# EAGLE library part 256-505/333-009/999-950 (library con-wago_256)
Serie 256, Stand: 01.01.2012. Die jeweils aktuellen Daten zu diesem Artikel finden Sie in unserem Produktkatalog, den Sie unter www.wago.com einsehen können. As of: 01/01/2012. Please find the newest data for this article in our product catalogue, which can be viewed under www.wago.com.
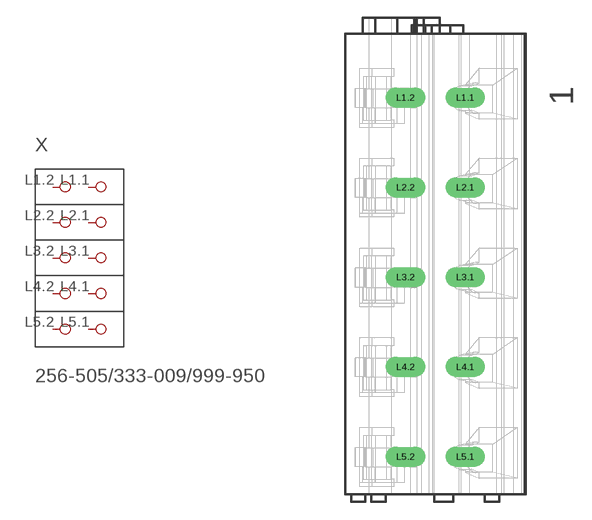
[diagram p325: symbol with the pads of P-256-505; footprint P-256-505]

Designator prefix X

## 256-505/333-009/999-950  [P-256-505]
L1.1  P1.1
L1.2  P1.2
L2.1  P2.1
L2.2  P2.2
L3.1  P3.1
L3.2  P3.2
L4.1  P4.1
L4.2  P4.2
L5.1  P5.1
L5.2  P5.2

## Footprint P-256-505 (pad centres in mm)
drill 1.1 long: L1.1 2.485,13.55; L1.2 -2.515,13.55; L2.1 2.485,6.05; L2.2 -2.515,6.05; L3.1 2.485,-1.45; L3.2 -2.515,-1.45; L4.1 2.485,-8.95; L4.2 -2.515,-8.95; L5.1 2.485,-16.45; L5.2 -2.515,-16.45